# EAGLE library part DRV8601 (library firefly)
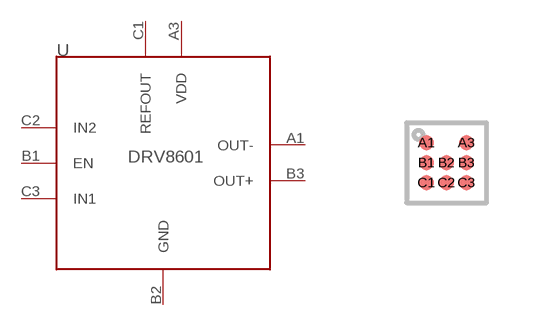
[diagram p17: symbol with the pads of S-PBGA-N8; footprint S-PBGA-N8]

Designator prefix -

## DRV8601  [S-PBGA-N8]
A1  OUT-
A3  VDD
B1  EN
B2  GND
B3  OUT+
C1  REFOUT
C2  IN2
C3  IN1

## Footprint S-PBGA-N8 (pad centres in mm)
smd 0.37 x 0.37: A1 -0.5,0.5; A3 0.5,0.5; B1 -0.5,0; B2 0,0; B3 0.5,0; C1 -0.5,-0.5; C2 0,-0.5; C3 0.5,-0.5